# Altium schematic symbol library Buzzer.schlib: 3 symbols
Pins are listed as number, name and electrical type; pins without a type are passive.

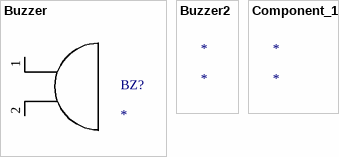
[diagram p0: symbols Buzzer to Component_1]

## Buzzer
designator BZ?
footprint XDCR_PS1240P02BT
pins: 1, 2

## Buzzer2
designator *

## Component_1
designator *